# Altium footprint library Yunus_Pcb.PcbLib: 44 footprints (part 3 of 3)
Each footprint in its own frame and in the unit in brackets; x right, y up, seen from the top. Pads: shape width x height; smd on the part's side, far side on the other; paste and mask are expansions set on the pad; w line width, h text height; cw(c..) or ccw(c..) is an arc to the next point about the centre after c.
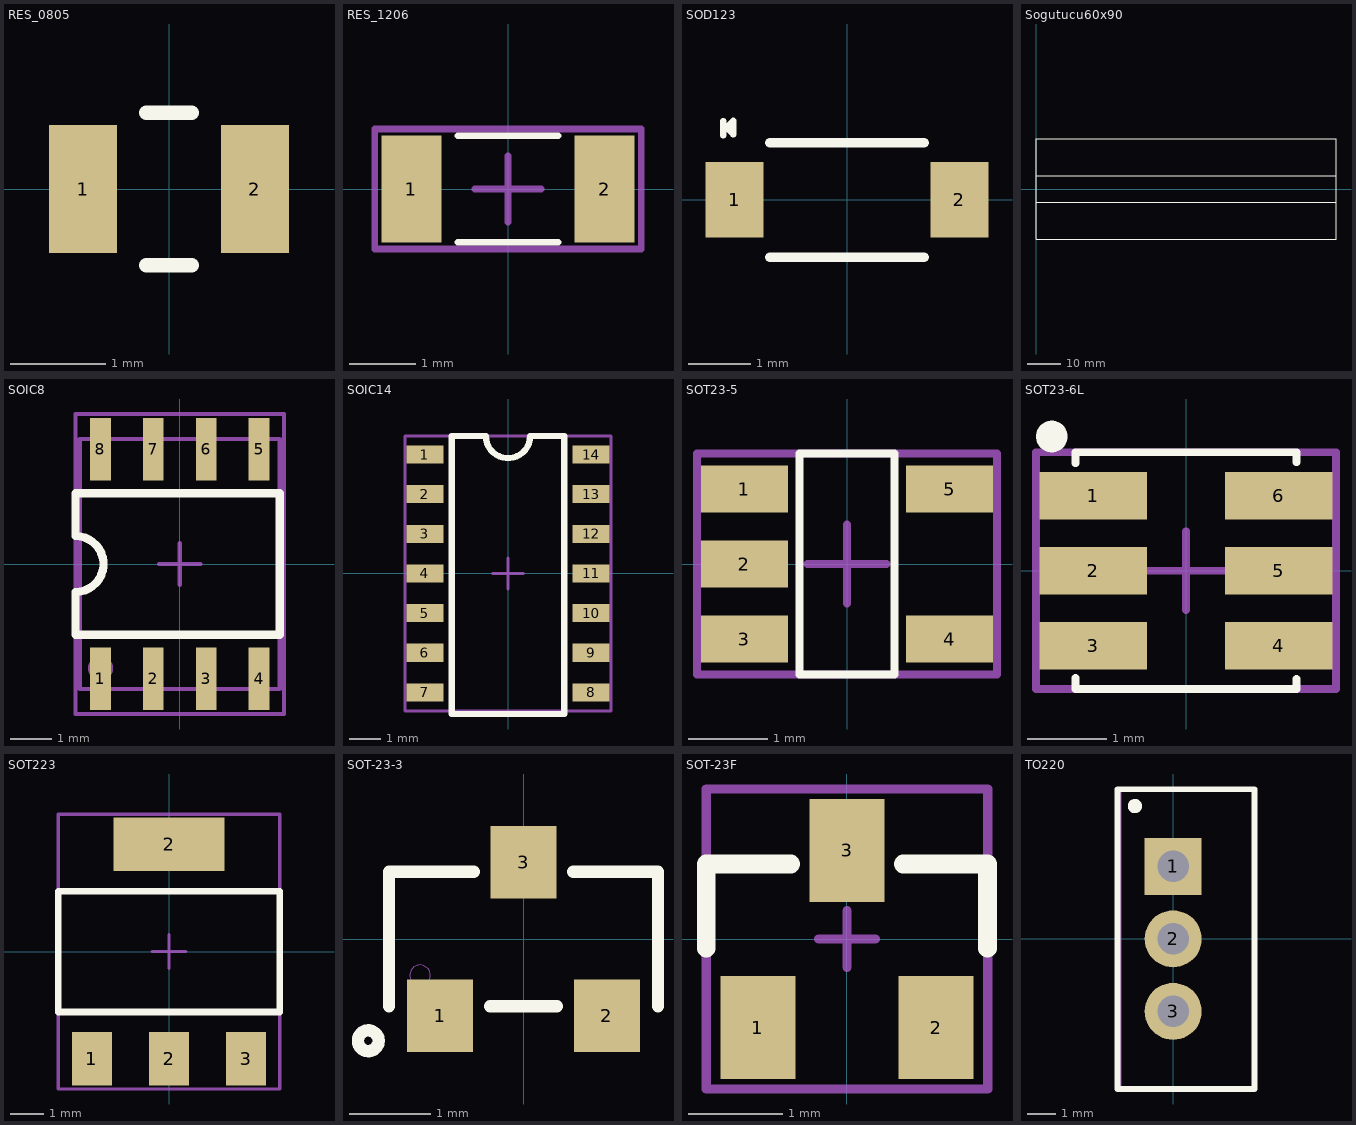
[diagram p2: the footprints below, top view; thin cyan lines are the x and y axes]

## RES_0805 [mil]
pads (2):
  rect 28x53 smd paste+0 mask+0: 1(-35.5,0) 2(35.5,0)
Top Overlay:
  lines w6: -9.39,-31.5 9.39,-31.5 ; -9.39,31.5 9.39,31.5
3D body "RES_CR10_MTK.step": height 24.02, standoff 0, extent -41.5,-26.5 41.5,26.5

## RES_1206 [mm]
pads (2):
  rect 0.9x1.6 smd mask+0.05: 1(-1.45,0) 2(1.45,0)
Top Overlay:
  lines w0.1: -0.75,-0.8 0.75,-0.8 ; -0.75,0.8 0.75,0.8
Top Component Center:
  lines w0.1: -0.5,0 0.5,0 ; 0,-0.5 0,0.5 ; -2,-0.9 2,-0.9 2,0.9 -2,0.9 -2,-0.9
Top Designator:
  lines w0.1: -2,-0.9 2,-0.9 2,0.9 -2,0.9 -2,-0.9
  text ".Designator" at -1.35,-0.383 h0.8
3D body "res1206r.STEP": height 0.55, standoff 0, extent -1.984,-0.938 1.984,0.938

## SOD123 [mil]
pads (2):
  rect 36.98x48 smd paste+0 mask+0: 1(-71.49,0) 2(71.49,0)
Top Overlay:
  lines w3.94: -78.74,40.98 -78.74,50.25 ; -78.27,44.9 -77.96,44.9 -72.44,50.42 -72.44,41.68 -76.58,45.82
  lines w6: -49.08,-36.5 49.08,-36.5 ; -49.08,36.5 49.08,36.5
3D body "SOD-123_2P84X1P80_ONS.step": height 53.11, standoff 0, extent -75.98,-31.5 75.98,31.5

## Sogutucu60x90 [mm]
Top Overlay:
  lines w0.025: 0,-15 90,-15 90,15 0,15 0,-15 ; 0,-4 90,-4 90,4 0,4 0,-4
3D body: height 60, standoff 0, extent 0,-4 90,4
3D body: height 32, standoff 30, extent 0,-9 90,9
3D body: height 36, standoff 34, extent 0,-12 90,12
3D body: height 42, standoff 40, extent 0,-15 90,15
3D body: height 48, standoff 46, extent 0,-15 90,15
3D body: height 54, standoff 52, extent 0,-15 90,15
3D body: height 60, standoff 58, extent 0,-15 90,15

## SOIC8 [mm]
pads (8):
  rect 0.5x1.5 smd mask+0.05: 1(-1.905,-2.75) 2(-0.635,-2.75) 3(0.635,-2.75) 4(1.905,-2.75) 5(1.905,2.75) 6(0.635,2.75) 7(-0.635,2.75) 8(-1.905,2.75)
Top Overlay:
  lines w0.2: -2.5,-1.7 2.4,-1.7 2.4,1.7 -2.5,1.7 -2.5,0.671 cw(c-2.5,0) -2.5,-0.671 -2.5,-1.7
Top 3D Body:
  circle w0.4: c-1.9,-2.5 r0.1
  lines w0.1: -2.4,-3 2.4,-3 2.4,3 -2.4,3 -2.4,-3
Top Component Center:
  lines w0.1: -0.5,0 0.5,0 ; 0,-0.5 0,0.5 ; -2.5,-3.6 -0.2,-3.6 2.5,-3.6 2.5,3.6 -2.5,3.6 -2.5,-3.6
Top Designator:
  lines w0.1: -2.5,-3.6 -0.2,-3.6 2.5,-3.6 2.5,3.6 -2.5,3.6 -2.5,-3.6
  text ".Designator" at 0.238,-1.746 h1.52
3D body "SOIC-8-1.step": height 1.75, standoff 0, extent -2.45,-3 2.45,3

## SOIC14 [mm]
pads (14):
  rect 1.18x0.58 smd mask+0.05: 1(-2.66,3.81) 2(-2.66,2.54) 3(-2.66,1.27) 4(-2.66,0) 5(-2.66,-1.27) 6(-2.66,-2.54) 7(-2.66,-3.81) 8(2.66,-3.81) 9(2.66,-2.54) 10(2.66,-1.27) 11(2.66,0) 12(2.66,1.27) 13(2.66,2.54) 14(2.66,3.81)
Top Overlay:
  lines w0.2: -1.8,-4.5 -1.8,4.4 -0.707,4.4 ccw(c0,4.4) 0.707,4.4 1.8,4.4 1.8,-4.5 -1.8,-4.5
Top Component Center:
  lines w0.1: -0.5,0 0.5,0 ; 0,-0.5 0,0.5 ; -3.3,-4.4 3.3,-4.4 3.3,4.4 -3.3,4.4 -3.3,-4.4
Top Designator:
  lines w0.1: -3.3,-4.4 -3.3,4.4 3.3,4.4 3.3,-4.4 -3.3,-4.4
  text "'.Designator'" at -1.946,-0.138 h1.52
3D body "User Library-so14-1.step": height 1.7, standoff 0, extent -3,-4.4 3,4.4

## SOT23-5 [mm]
pads (5):
  rect 1.1x0.6 smd mask+0.05: 1(-1.3,0.95) 2(-1.3,0) 3(-1.3,-0.95) 4(1.3,-0.95) 5(1.3,0.95)
Top Overlay:
  lines w0.1: -0.6,-1.4 0.6,-1.4 0.6,1.4 -0.6,1.4 -0.6,-1.4
Top Component Center:
  lines w0.1: -0.5,0 0.5,0 ; 0,-0.5 0,0.5 ; -1.9,-1.4 -1.9,1.4 1.9,1.4 1.9,-1.4 -1.9,-1.4
Top Designator:
  lines w0.1: -1.9,-1.4 1.9,-1.4 1.9,1.4 -1.9,1.4 -1.9,-1.4
  text "'.Designator'" at -1.6,-0.567 h1.3
3D body "OPA314AIDBVR.STEP": height 1.45, standoff 0, extent -1.4,-1.45 1.4,1.45

## SOT23-6L [mm]
pads (6):
  rect 1.36x0.6 smd mask+0.05: 1(-1.175,0.95) 2(-1.175,0) 3(-1.175,-0.95) 4(1.175,-0.95) 5(1.175,0) 6(1.175,0.95)
Top Overlay:
  circle w0.2: c-1.7,1.7 r0.1
  lines w0.1: -1.4,-1.361 -1.4,-1.5 -1.3,-1.5 1.4,-1.5 1.4,-1.374 ; -1.4,1.361 -1.4,1.5 -1.3,1.5 1.4,1.5 1.4,1.374
Top Component Center:
  lines w0.1: -0.5,0 0.5,0 ; 0,-0.5 0,0.5 ; -1.9,-1.5 -1.9,1.5 1.9,1.5 1.9,-1.5 -1.9,-1.5
Top Designator:
  lines w0.1: -1.9,-1.5 -1.9,1.5 1.9,1.5 1.9,-1.5 -1.9,-1.5
  text "'.Designator'" at -1.88,-0.713 h1.4
3D body "USBLC6-2SC6.STEP": height 1.45, standoff 0, extent -1.4,-1.463 1.4,1.462

## SOT223 [mm]
pads (4):
  rect 1.2x1.6 smd mask+0.05: 1(-2.3,-3.2) 2(0,-3.2) 3(2.3,-3.2)
  rect 3.3x1.6 smd mask+0.05: 2(0,3.2)
Top Overlay:
  lines w0.2: -3.3,-1.8 3.3,-1.8 3.3,1.8 -0.8,1.8 -3.3,1.8 -3.3,-1.8
Top Component Center:
  lines w0.1: -0.5,0 0.5,0 ; 0,-0.5 0,0.5 ; -3.3,-4.1 -3.3,4.1 3.3,4.1 3.3,-4.1 -3.3,-4.1
Top Designator:
  lines w0.1: -3.3,-4.1 3.3,-4.1 3.3,4.1 -3.3,4.1 -3.3,-4.1
  text "'.Designator'" at -2.046,-0.538 h1.52
3D body "CircuitWorks-SOT-223.step": height 1.65, standoff -0.03, extent -3.25,-3.48 3.25,3.48

## SOT-23-3 [mil]
pads (3):
  rect 32x35 smd paste+0 mask+0: 1(-40.35,-37.2) 2(40.35,-37.2) 3(0,37.2)
Top Overlay:
  circle w6: c-75.04,-49.21 r5
  lines w6: -65.04,-32.56 -65.04,32.56 -24.14,32.56 ; -16.21,-32.56 16.21,-32.56 ; 24.14,32.56 65.04,32.56 65.04,-32.56
Mechanical 13:
  circle w0: c-50.04,-17.56 r5
3D body "MMBTA06-7-F.step": height 45.28, standoff 0, extent -57.09,-47.24 57.09,47.24

## SOT-23F [mm]
pads (3):
  rect 0.8x1.1 smd mask+0.05: 1(-0.95,-0.945) 2(0.95,-0.945) 3(0,0.945)
Top Overlay:
  lines w0.2: -1.5,-0.1 -1.5,0.8 -0.6,0.8 ; 0.6,0.8 1.5,0.8 1.5,-0.1
Top Component Center:
  lines w0.1: -0.3,0 0.3,0 ; 0,-0.3 0,0.3 ; -1.5,-1.6 -1.5,1.6 1.5,1.6 1.5,-1.6 -1.5,-1.6
Top Designator:
  lines w0.1: -1.5,-1.6 -1.5,1.6 1.5,1.6 1.5,-1.6 -1.5,-1.6
  text "'.Designator'" at -1.2,-0.467 h1
3D body "SOT23-3.stp": height 1.2, standoff 0.02, extent -1.5,-1.418 1.5,1.418

## TO220 [mm]
pads (3):
  rect 2x2 hole 1.1 paste+0 mask+0: 1(0,2.54)
  round 2 hole 1.1 paste+0 mask+0: 2(0,0) 3(0,-2.54)
Top Overlay:
  circle w0.25: c-1.341,4.651 r0.125
  lines w0.2: -1.95,-5.26 -1.95,5.24 2.85,5.24 2.85,-5.26 -1.95,-5.26
Mechanical 13:
  lines w0.1: -1.868,-5.25 -1.868,5.25 2.832,5.25 2.832,-5.25 -1.868,-5.25
Mechanical 15:
  lines w0.1: -0.5,0 0.5,0 ; 0,-0.5 0,0.5
3D body "PG-TO220-3-319_Z8B00186424_V01_3D.stp": height 18.01, standoff -11.84, extent -1.873,-5.25 2.837,5.25